# EAGLE library part SD/MMC (library jasons_stuff)
SD card connector KINGFONT SDCMF-10915W010
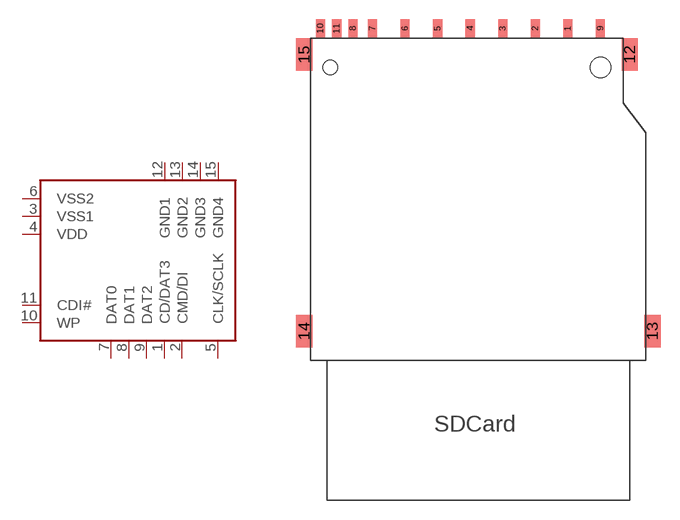
[diagram p12: symbol with the pads of SD/MMC; footprint SD/MMC]

Designator prefix -

## SD/MMCSD/MMC  [SD/MMC]
1  CD/DAT3
2  CMD/DI
3  VSS1  pwr
4  VDD  pwr
5  CLK/SCLK
6  VSS2  pwr
7  DAT0
8  DAT1
9  DAT2
10  WP  out
11  CDI#  out
12  GND1  pwr
13  GND2  pwr
14  GND3  pwr
15  GND4  pwr

## Footprint SD/MMC (pad centres in mm)
smd 0.711 x 1.422: 1 7.366,13.462; 2 4.826,13.462; 3 2.286,13.462; 4 -0.254,13.462; 5 -2.794,13.462; 6 -5.334,13.462; 7 -7.874,13.462; 8 -9.398,13.462; 9 9.906,13.462; 10 -11.938,13.462; 11 -10.668,13.462
smd 1.27 x 2.54: 12 12.192,11.43; 13 13.97,-10.16; 14 -13.208,-10.16; 15 -13.208,11.43
hole 1.6 at 9.906,10.414
hole 1.1 at -11.176,10.414